# Altium footprint library Net_Tie.PcbLib: 1 footprints
Each footprint in its own frame and in the unit in brackets; x right, y up, seen from the top. Pads: shape width x height; smd on the part's side, far side on the other; paste and mask are expansions set on the pad; w line width, h text height; cw(c..) or ccw(c..) is an arc to the next point about the centre after c.
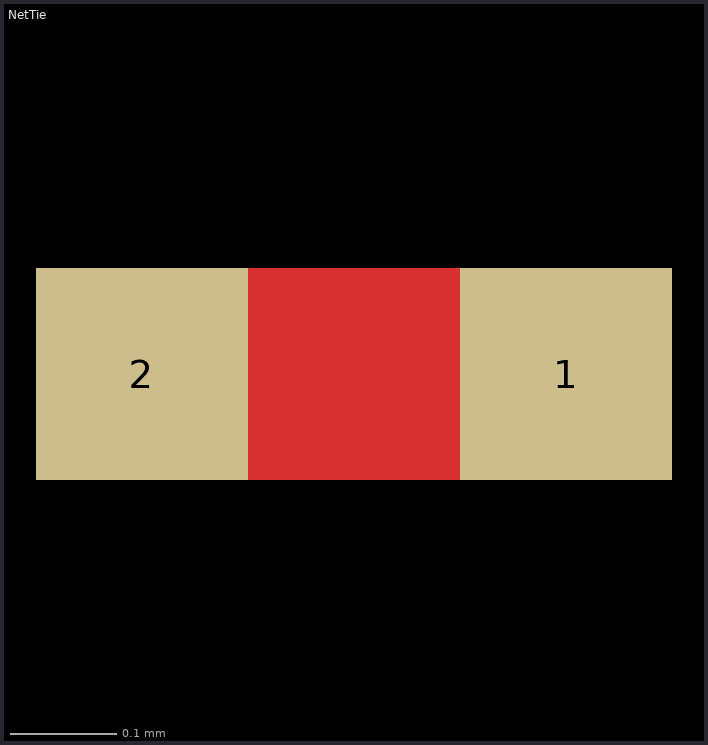
[diagram p0: the footprint, top view; thin cyan lines are the x and y axes]

## NetTie [mm]
pads (2):
  rect 0.2x0.2 smd mask+0: 1(20.5,6.9) 2(20.1,6.9)
Top Layer:
  rectangle: 20.1,6.8 20.5,7